# Altium footprint library Capacitors THD.PcbLib: 270 footprints (part 6 of 17)
Each footprint in its own frame and in the unit in brackets; x right, y up, seen from the top. Pads: shape width x height; smd on the part's side, far side on the other; paste and mask are expansions set on the pad; w line width, h text height; cw(c..) or ccw(c..) is an arc to the next point about the centre after c.
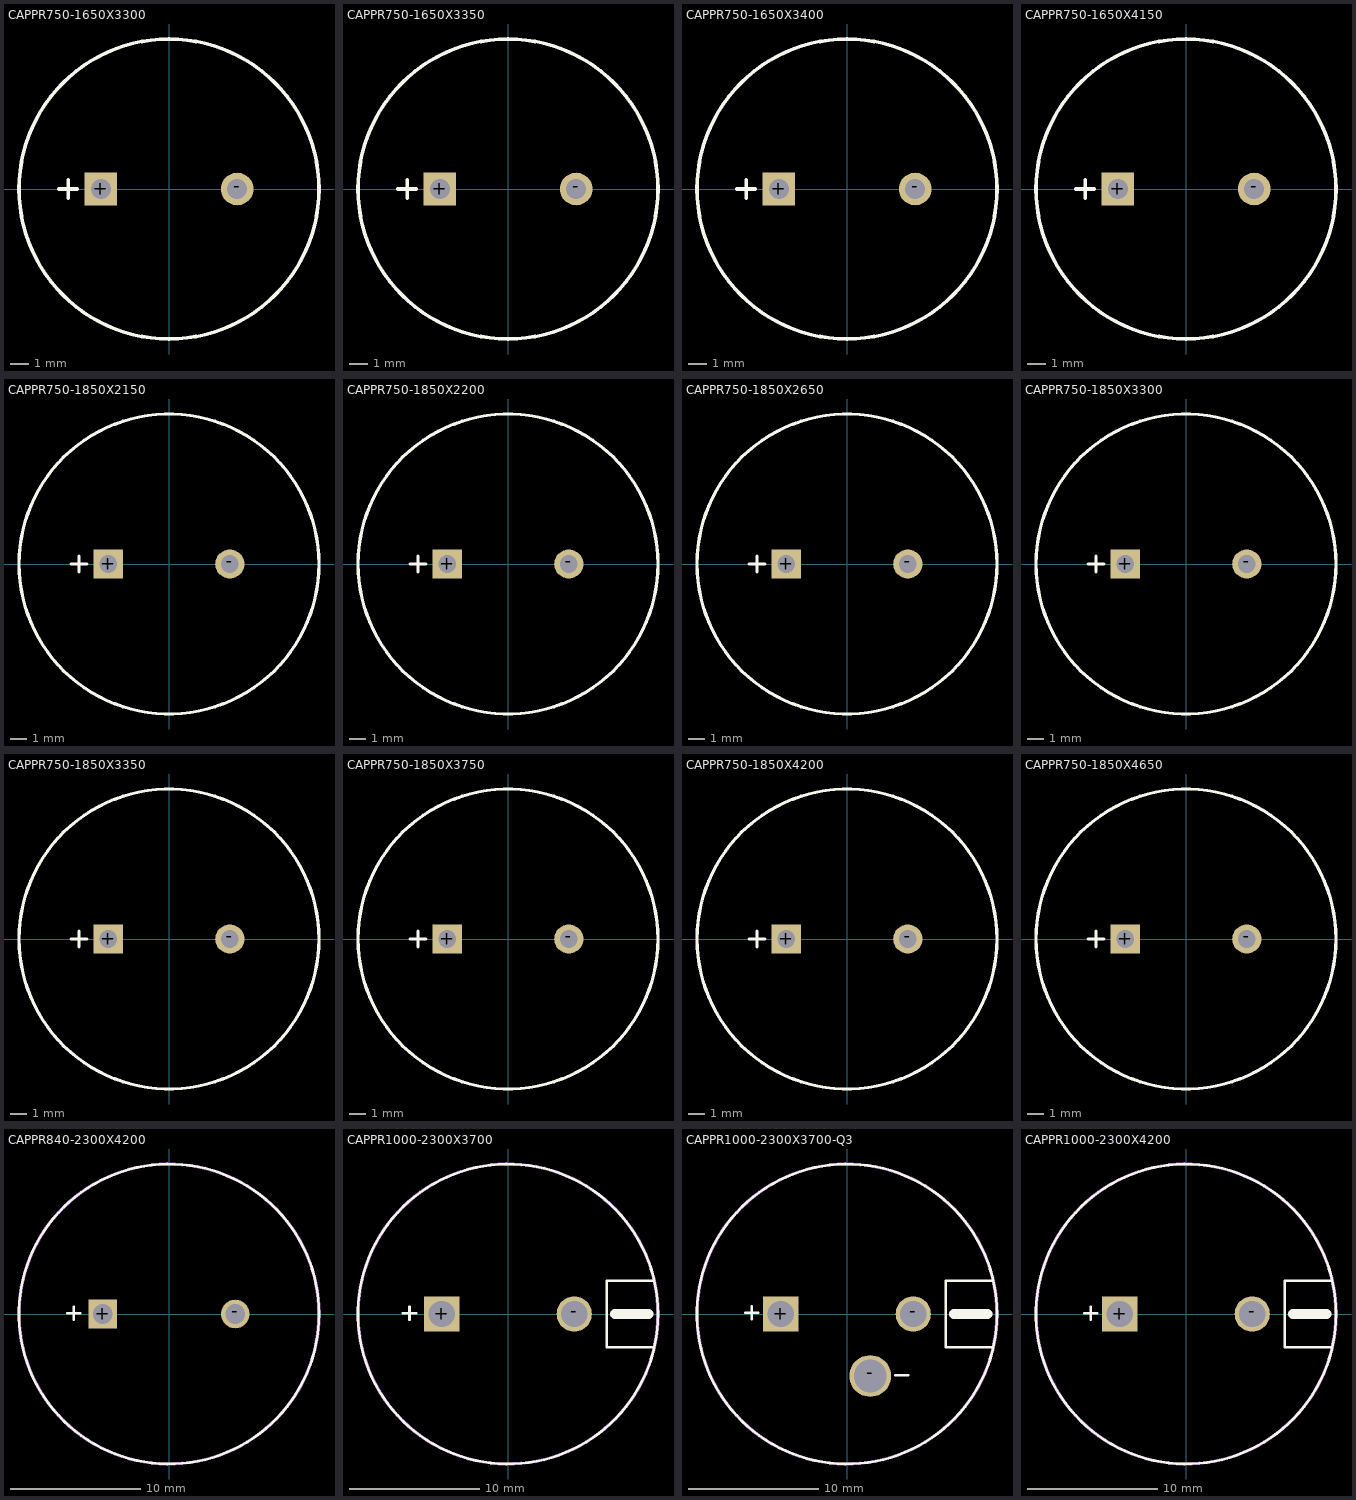
[diagram p5: the footprints below, top view; thin cyan lines are the x and y axes]

## CAPPR750-1650X3300 [mm] "Capacitor, Radial, Pin spacing 7.5mm - Body Diameter 16.5mm X Body  Height 33mm"
height 33
pads (2):
  rect 1.8x1.8 hole 1.1: +(-3.75,0)
  round 1.8 hole 1.1: -(3.75,0)
Top Overlay:
  circle w0.2: c0,0 r8.25
  lines w0.2: -6.05,0 -5.05,0 ; -5.55,-0.5 -5.55,0.5
Mechanical 13:
  circle w0.1: c0,0 r8.25
Mechanical 14:
  circle w0.1: c0,0 r8.25
  lines w0.1: -6.05,0 -5.05,0 ; -5.55,-0.5 -5.55,0.5
3D body "CAPPR750-1650X3300.stp": height 33, standoff -3.6, extent -8.25,-8.229 8.25,8.229

## CAPPR750-1650X3350 [mm] "Capacitor, Radial, Pin spacing 7.5mm - Body Diameter 16.5mm X Body  Height 33.5mm"
height 33.5
pads (2):
  rect 1.8x1.8 hole 1.1: +(-3.75,0)
  round 1.8 hole 1.1: -(3.75,0)
Top Overlay:
  circle w0.2: c0,0 r8.25
  lines w0.2: -6.05,0 -5.05,0 ; -5.55,-0.5 -5.55,0.5
Mechanical 13:
  circle w0.1: c0,0 r8.25
Mechanical 14:
  circle w0.1: c0,0 r8.25
  lines w0.1: -6.05,0 -5.05,0 ; -5.55,-0.5 -5.55,0.5
3D body "CAPPR750-1650X3350.stp": height 33.5, standoff -3.6, extent -8.25,-8.216 8.25,8.216

## CAPPR750-1650X3400 [mm] "Capacitor, Radial, Pin spacing 7.5mm - Body Diameter 16.5mm X Body  Height 34mm"
height 34
pads (2):
  rect 1.8x1.8 hole 1.1: +(-3.75,0)
  round 1.8 hole 1.1: -(3.75,0)
Top Overlay:
  circle w0.2: c0,0 r8.25
  lines w0.2: -6.05,0 -5.05,0 ; -5.55,-0.5 -5.55,0.5
Mechanical 13:
  circle w0.1: c0,0 r8.25
Mechanical 14:
  circle w0.1: c0,0 r8.25
  lines w0.1: -6.05,0 -5.05,0 ; -5.55,-0.5 -5.55,0.5
3D body "CAPPR750-1650X3400.stp": height 34, standoff -3.6, extent -8.25,-8.216 8.25,8.216

## CAPPR750-1650X4150 [mm] "Capacitor, Radial, Pin spacing 7.5mm - Body Diameter 16.5mm X Body  Height 41.5mm"
height 41.5
pads (2):
  rect 1.8x1.8 hole 1.1: +(-3.75,0)
  round 1.8 hole 1.1: -(3.75,0)
Top Overlay:
  circle w0.2: c0,0 r8.25
  lines w0.2: -6.05,0 -5.05,0 ; -5.55,-0.5 -5.55,0.5
Mechanical 13:
  circle w0.1: c0,0 r8.25
Mechanical 14:
  circle w0.1: c0,0 r8.25
  lines w0.1: -6.05,0 -5.05,0 ; -5.55,-0.5 -5.55,0.5
3D body "CAPPR750-1650X4150.stp": height 41.5, standoff -3.6, extent -8.25,-8.25 8.25,8.25

## CAPPR750-1850X2150 [mm] "Capacitor, Radial, Pin spacing 7.5mm - Body Diameter 18.5mm X Body  Height 21.5mm"
height 21.5
pads (2):
  rect 1.8x1.8 hole 1.1: +(-3.75,0)
  round 1.8 hole 1.1: -(3.75,0)
Top Overlay:
  circle w0.2: c0,0 r9.25
  lines w0.2: -6.05,0 -5.05,0 ; -5.55,-0.5 -5.55,0.5
Mechanical 13:
  circle w0.1: c0,0 r9.25
Mechanical 14:
  circle w0.1: c0,0 r9.25
  lines w0.1: -6.05,0 -5.05,0 ; -5.55,-0.5 -5.55,0.5
3D body "CAPPR750-1850X2150.stp": height 21.5, standoff -3.6, extent -9.25,-9.241 9.25,9.243

## CAPPR750-1850X2200 [mm] "Capacitor, Radial, Pin spacing 7.5mm - Body Diameter 18.5mm X Body  Height 22.0mm"
height 22
pads (2):
  rect 1.8x1.8 hole 1.1: +(-3.75,0)
  round 1.8 hole 1.1: -(3.75,0)
Top Overlay:
  circle w0.2: c0,0 r9.25
  lines w0.2: -6.05,0 -5.05,0 ; -5.55,-0.5 -5.55,0.5
Mechanical 13:
  circle w0.1: c0,0 r9.25
Mechanical 14:
  circle w0.1: c0,0 r9.25
  lines w0.1: -6.05,0 -5.05,0 ; -5.55,-0.5 -5.55,0.5
3D body "CAPPR750-1850X2200.stp": height 22, standoff -3.6, extent -9.25,-9.24 9.25,9.24

## CAPPR750-1850X2650 [mm] "Capacitor, Radial, Pin spacing 7.5mm - Body Diameter 18.5mm X Body  Height 26.5mm"
height 26.5
pads (2):
  rect 1.8x1.8 hole 1.1: +(-3.75,0)
  round 1.8 hole 1.1: -(3.75,0)
Top Overlay:
  circle w0.2: c0,0 r9.25
  lines w0.2: -6.05,0 -5.05,0 ; -5.55,-0.5 -5.55,0.5
Mechanical 13:
  circle w0.1: c0,0 r9.25
Mechanical 14:
  circle w0.1: c0,0 r9.25
  lines w0.1: -6.05,0 -5.05,0 ; -5.55,-0.5 -5.55,0.5
3D body "CAPPR750-1850X2650.stp": height 26.5, standoff -3.6, extent -9.25,-9.241 9.25,9.241

## CAPPR750-1850X3300 [mm] "Capacitor, Radial, Pin spacing 7.5mm - Body Diameter 18.5mm X Body  Height 33.0mm"
height 33
pads (2):
  rect 1.8x1.8 hole 1.1: +(-3.75,0)
  round 1.8 hole 1.1: -(3.75,0)
Top Overlay:
  circle w0.2: c0,0 r9.25
  lines w0.2: -6.05,0 -5.05,0 ; -5.55,-0.5 -5.55,0.5
Mechanical 13:
  circle w0.1: c0,0 r9.25
Mechanical 14:
  circle w0.1: c0,0 r9.25
  lines w0.1: -6.05,0 -5.05,0 ; -5.55,-0.5 -5.55,0.5
3D body "CAPPR750-1850X3300.stp": height 33, standoff -3.6, extent -9.25,-9.241 9.25,9.241

## CAPPR750-1850X3350 [mm] "Capacitor, Radial, Pin spacing 7.5mm - Body Diameter 18.5mm X Body  Height 33.0mm"
height 33.5
pads (2):
  rect 1.8x1.8 hole 1.1: +(-3.75,0)
  round 1.8 hole 1.1: -(3.75,0)
Top Overlay:
  circle w0.2: c0,0 r9.25
  lines w0.2: -6.05,0 -5.05,0 ; -5.55,-0.5 -5.55,0.5
Mechanical 13:
  circle w0.1: c0,0 r9.25
Mechanical 14:
  circle w0.1: c0,0 r9.25
  lines w0.1: -6.05,0 -5.05,0 ; -5.55,-0.5 -5.55,0.5
3D body "CAPPR750-1850X3350.stp": height 33.5, standoff -3.6, extent -9.25,-9.216 9.25,9.216

## CAPPR750-1850X3750 [mm] "Capacitor, Radial, Pin spacing 7.5mm - Body Diameter 18.5mm X Body  Height 37.5mm"
height 37.5
pads (2):
  rect 1.8x1.8 hole 1.1: +(-3.75,0)
  round 1.8 hole 1.1: -(3.75,0)
Top Overlay:
  circle w0.2: c0,0 r9.25
  lines w0.2: -6.05,0 -5.05,0 ; -5.55,-0.5 -5.55,0.5
Mechanical 13:
  circle w0.1: c0,0 r9.25
Mechanical 14:
  circle w0.1: c0,0 r9.25
  lines w0.1: -6.05,0 -5.05,0 ; -5.55,-0.5 -5.55,0.5
3D body "CAPPR750-1850X3750.stp": height 37.5, standoff -3.6, extent -9.25,-9.216 9.25,9.216

## CAPPR750-1850X4200 [mm] "Capacitor, Radial, Pin spacing 7.5mm - Body Diameter 18.5mm X Body  Height 42mm"
height 42.5
pads (2):
  rect 1.8x1.8 hole 1.1: +(-3.75,0)
  round 1.8 hole 1.1: -(3.75,0)
Top Overlay:
  circle w0.2: c0,0 r9.25
  lines w0.2: -6.05,0 -5.05,0 ; -5.55,-0.5 -5.55,0.5
Mechanical 13:
  circle w0.1: c0,0 r9.25
Mechanical 14:
  circle w0.1: c0,0 r9.25
  lines w0.1: -6.05,0 -5.05,0 ; -5.55,-0.5 -5.55,0.5
3D body "CAPPR750-1850X4200.stp": height 42, standoff -3.6, extent -9.25,-9.216 9.25,9.264

## CAPPR750-1850X4650 [mm] "Capacitor, Radial, Pin spacing 7.5mm - Body Diameter 18mm X Body  Height 45mm"
height 46.5
pads (2):
  rect 1.8x1.8 hole 1.1: +(-3.75,0)
  round 1.8 hole 1.1: -(3.75,0)
Top Overlay:
  circle w0.2: c0,0 r9.25
  lines w0.2: -6.05,0 -5.05,0 ; -5.55,-0.5 -5.55,0.5
Mechanical 13:
  circle w0.1: c0,0 r9.25
Mechanical 14:
  circle w0.1: c0,0 r9.25
  lines w0.1: -6.05,0 -5.05,0 ; -5.55,-0.5 -5.55,0.5
3D body "CAPPR750-1850X4650.stp": height 46.5, standoff -3.6, extent -9.25,-9.25 9.25,9.245

## CAPPR840-2300X4200 [mm] "Capacitor, Radial, Pins spacing 8.4mm - Body Diameter 23mm X Body  Height 42mm"
height 42
pads (2):
  rect 2.2x2.2 hole 1.5: +(-5.08,0)
  round 2.2 hole 1.5: -(5.08,0)
Top Overlay:
  circle w0.2: c0,0 r11.5
  lines w0.2: -7.8,0.05 -6.8,0.05 ; -7.3,-0.45 -7.3,0.55
Mechanical 13:
  circle w0.254: c0,0 r11.5
Mechanical 14:
  circle w0.1: c0,0 r11.5
  lines w0.1: -7.8,0.05 -6.8,0.05 ; -7.3,-0.45 -7.3,0.55
3D body "CAPPR1000-2300X4200.stp": height 42, standoff -4, extent -11.5,-11.5 11.5,11.5

## CAPPR1000-2300X3700 [mm] "Capacitor, Radial, Pins spacing 10mm - Body Diameter 22mm X Body  Height 35mm"
height 37
pads (2):
  rect 2.7x2.7 hole 2: +(-5.08,0)
  round 2.7 hole 2: -(5.08,0)
Top Overlay:
  circle w0.2: c0,0 r11.5
  lines w0.2: -8.05,0.05 -7.05,0.05 ; -7.55,-0.45 -7.55,0.55 ; 11.131,-2.54 7.575,-2.54 7.575,2.54 11.131,2.54
  lines w0.8: 8.21,0 10.75,0
Mechanical 13:
  circle w0.254: c0,0 r11.5
Mechanical 14:
  circle w0.1: c0,0 r11.5
  lines w0.1: -8.05,0.05 -7.05,0.05 ; -7.55,-0.45 -7.55,0.55 ; 11.131,-2.54 7.575,-2.54 7.575,2.54 11.131,2.54
  lines w0.8: 8.21,0 10.75,0
3D body "CAPPR1000-2300X3700.stp": height 37, standoff -4, extent -11.5,-11.5 11.5,11.5

## CAPPR1000-2300X3700-Q3 [mm] "Capacitor, Radial, 3 Pins spacing 10mm and 4.75mm - Body Diameter 23mm X Body  Height 37mm"
height 37
pads (3):
  rect 2.7x2.7 hole 2: +(-5.08,0)
  round 3.2 hole 2.5: -(1.78,-4.75)
  round 2.7 hole 2: -(5.08,0)
Top Overlay:
  circle w0.2: c0,0 r11.5
  lines w0.2: -7.8,0.1 -6.8,0.1 ; -7.3,-0.4 -7.3,0.6 ; 3.7,-4.7 4.7,-4.7 ; 11.131,-2.54 7.575,-2.54 7.575,2.54 11.131,2.54
  lines w0.8: 8.21,0 10.75,0
Mechanical 13:
  circle w0.254: c0,0 r11.5
Mechanical 14:
  circle w0.1: c0,0 r11.5
  lines w0.1: -7.8,0.1 -6.8,0.1 ; -7.3,-0.4 -7.3,0.6 ; 3.7,-4.7 4.7,-4.7 ; 11.131,-2.54 7.575,-2.54 7.575,2.54 11.131,2.54
  lines w0.8: 8.21,0 10.75,0
3D body "CAPPR1000-2300X3700-Q3.stp": height 37, standoff -4, extent -11.5,-11.5 11.5,11.5

## CAPPR1000-2300X4200 [mm] "Capacitor, Radial, Pins spacing 10mm - Body Diameter 23mm X Body  Height 42mm"
height 42
pads (2):
  rect 2.7x2.7 hole 2: +(-5.08,0)
  round 2.7 hole 2: -(5.08,0)
Top Overlay:
  circle w0.2: c0,0 r11.5
  lines w0.2: -7.8,0.05 -6.8,0.05 ; -7.3,-0.45 -7.3,0.55 ; 11.131,-2.54 7.575,-2.54 7.575,2.54 11.131,2.54
  lines w0.8: 8.21,0 10.75,0
Mechanical 13:
  circle w0.254: c0,0 r11.5
Mechanical 14:
  circle w0.1: c0,0 r11.5
  lines w0.1: -7.8,0.05 -6.8,0.05 ; -7.3,-0.45 -7.3,0.55 ; 11.131,-2.54 7.575,-2.54 7.575,2.54 11.131,2.54
  lines w0.8: 8.21,0 10.75,0
3D body "CAPPR1000-2300X4200.stp": height 42, standoff -4, extent -11.5,-11.5 11.5,11.5